# Altium schematic symbol library D_PN.SchLib: 1 symbol
Pins are listed as number, name and electrical type; pins without a type are passive.

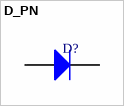
[diagram p0: symbol D_PN]

## D_PN
designator D?  (value not drawn)
pins: 1 K, 2 A